# Altium footprint library PcbLib2.PcbLib: 25 footprints (part 2 of 2)
Each footprint in its own frame and in the unit in brackets; x right, y up, seen from the top. Pads: shape width x height; smd on the part's side, far side on the other; paste and mask are expansions set on the pad; w line width, h text height; cw(c..) or ccw(c..) is an arc to the next point about the centre after c.
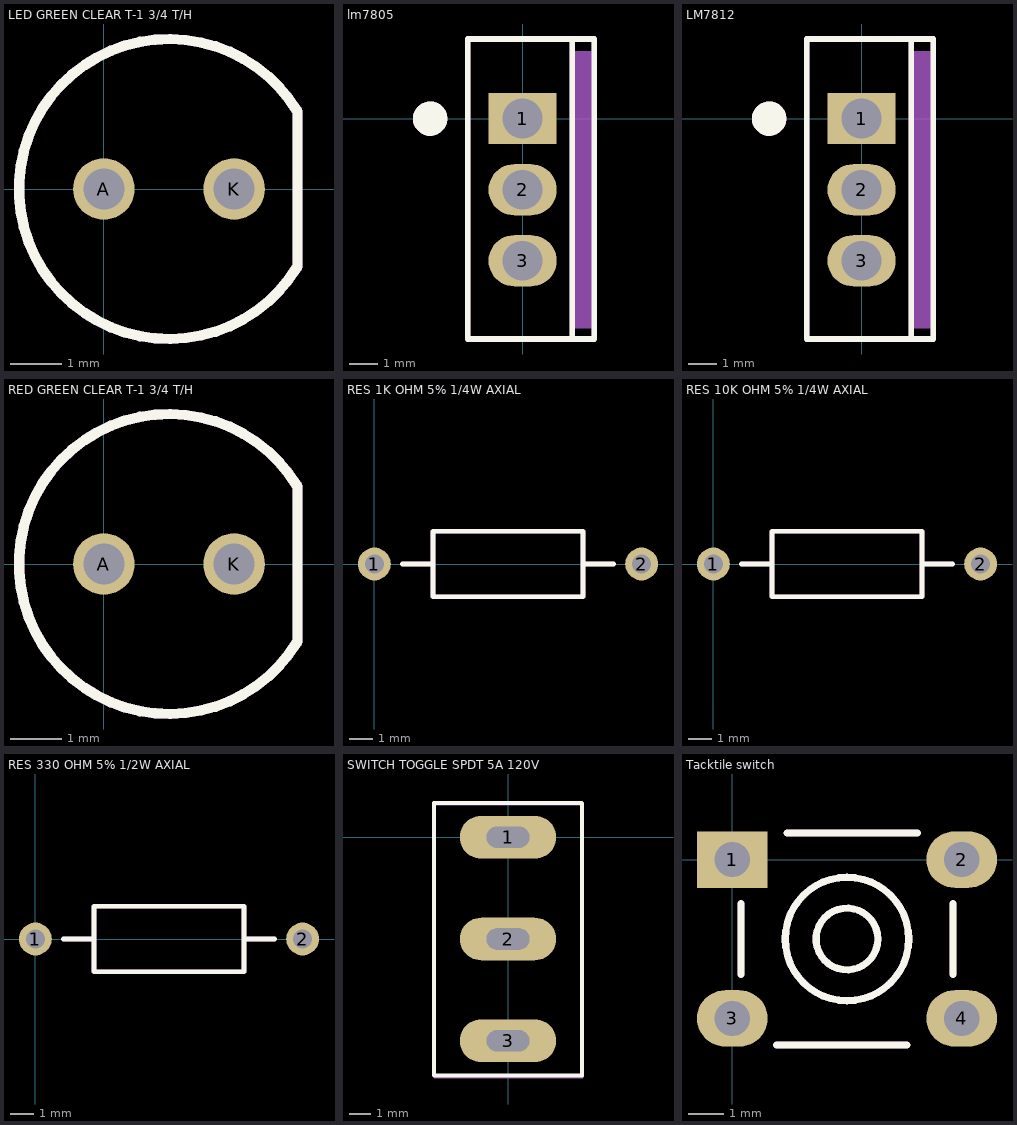
[diagram p1: the footprints below, top view; thin cyan lines are the x and y axes]

## LED GREEN CLEAR T-1 3/4 T/H [mm]
pads (2):
  round 1.2 hole 0.8: A(0,0) K(2.54,0)
Top Overlay:
  lines w0.2: 3.775,-1.51 cw(c1.27,0) 3.775,1.51 3.775,-1.51
Top Assembly:
  lines w0.2: 3.775,-1.51 cw(c1.27,0) 3.775,1.51 3.775,-1.51
  text "'.Designator'" at -8.927,-0.75 h1.8
3D body "green led.STEP": height 8.61, standoff -9.99, extent -1.655,-2.925 3.77,2.925

## lm7805 [mm]
pads (3):
  rect 2.4x1.8 hole 1.4: 1(0,0)
  oval 2.4x1.8 hole 1.4: 2(0,-2.5) 3(0,-5)
Top Overlay:
  circle w0.61: c-3.25,0 r0.3
  lines w0.2: 1.75,2.775 1.75,-7.7 1.775,-7.725 ; -1.925,-7.75 2.525,-7.75 2.525,2.8 -1.925,2.8 -1.925,-7.75
Top Assembly:
  circle w0.61: c-3.25,0 r0.3
  rectangle: 1.7,-7.375 2.5,2.375
  lines w0.2: 1.75,-7.7 1.75,2.775 ; -1.925,-7.75 2.525,-7.75 2.525,2.8 -1.925,2.8 -1.925,-7.75
  text "'.Designator'" at 0.942,-11.589 h1.6
3D body "lm7805.STEP": height 20.75, standoff -9.27, extent -1.78,-7.615 2.4,2.665

## LM7812 [mm]
pads (3):
  rect 2.4x1.8 hole 1.4: 1(0,0)
  oval 2.4x1.8 hole 1.4: 2(0,-2.5) 3(0,-5)
Top Overlay:
  circle w0.61: c-3.25,0 r0.3
  lines w0.2: 1.75,2.775 1.75,-7.7 1.775,-7.725 ; -1.925,-7.75 2.525,-7.75 2.525,2.8 -1.925,2.8 -1.925,-7.75
Top Assembly:
  circle w0.61: c-3.25,0 r0.3
  rectangle: 1.7,-7.375 2.5,2.375
  lines w0.2: 1.75,-7.7 1.75,2.775 ; -1.925,-7.75 2.525,-7.75 2.525,2.8 -1.925,2.8 -1.925,-7.75
  text "'.Designator'" at 0.942,-11.589 h1.6
3D body "lm7805.STEP": height 20.75, standoff -9.27, extent -1.78,-7.615 2.4,2.665

## RED GREEN CLEAR T-1 3/4 T/H [mm]
pads (2):
  round 1.2 hole 0.8: A(0,0) K(2.54,0)
Top Overlay:
  lines w0.2: 3.775,-1.51 cw(c1.27,0) 3.775,1.51 3.775,-1.51
Top Assembly:
  lines w0.2: 3.775,-1.51 cw(c1.27,0) 3.775,1.51 3.775,-1.51
  text "'.Designator'" at -8.927,-0.75 h1.8
3D body "red led.STEP": height 8.61, standoff -9.99, extent -1.655,-2.925 3.77,2.925

## RES 1K OHM 5% 1/4W AXIAL [mm]
pads (2):
  round 1.4 hole 0.8: 1(0,0) 2(11.4,0)
Top Overlay:
  lines w0.2: 1.2,0 2.5,0 ; 8.9,0 10.2,0 ; 2.5,-1.4 2.5,1.4 8.9,1.4 8.9,-1.4 2.5,-1.4
Top Assembly:
  lines w0.2: 1.2,0 2.5,0 ; 8.9,0 10.2,0 ; 2.5,-1.4 2.5,1.4 8.9,1.4 8.9,-1.4 2.5,-1.4
  text "'.Designator'" at -1.098,-0.5 h1.2
3D body "STA_CFM12_STP.step": height 2.61, standoff -2.79, extent -0.317,-1.306 11.747,1.306

## RES 10K OHM 5% 1/4W AXIAL [mm]
pads (2):
  round 1.4 hole 0.8: 1(0,0) 2(11.4,0)
Top Overlay:
  lines w0.2: 1.2,0 2.5,0 ; 8.9,0 10.2,0 ; 2.5,-1.4 2.5,1.4 8.9,1.4 8.9,-1.4 2.5,-1.4
Top Assembly:
  lines w0.2: 1.2,0 2.5,0 ; 8.9,0 10.2,0 ; 2.5,-1.4 2.5,1.4 8.9,1.4 8.9,-1.4 2.5,-1.4
  text "'.Designator'" at -1.098,-0.5 h1.2
3D body "STA_CFM12_STP.step": height 2.61, standoff -2.79, extent -0.317,-1.306 11.747,1.306

## RES 330 OHM 5% 1/2W AXIAL [mm]
pads (2):
  round 1.4 hole 0.8: 1(0,0) 2(11.4,0)
Top Overlay:
  lines w0.2: 1.2,0 2.5,0 ; 8.9,0 10.2,0 ; 2.5,-1.4 8.9,-1.4 8.9,1.4 2.5,1.4 2.5,-1.4
Top Assembly:
  lines w0.2: 1.2,0 2.5,0 ; 8.9,0 10.2,0 ; 2.5,-1.4 8.9,-1.4 8.9,1.4 2.5,1.4 2.5,-1.4
  text "'.Designator'" at -1.098,-0.5 h1.2
3D body "STA_CFM12_STP.step": height 2.61, standoff -2.79, extent -0.317,-1.306 11.747,1.306

## SWITCH TOGGLE SPDT 5A 120V [mm]
pads (3):
  oval 4.5x2 hole 1 slot 2 at 0 deg: 1(0,0) 2(0,-4.75) 3(0,-9.5)
Top Overlay:
  lines w0.2: -3.45,-11.1 -3.45,1.6 3.425,1.6 3.45,1.575 3.45,-11.125 -3.425,-11.125 -3.45,-11.1
Top Assembly:
  lines w0.2: -3.45,-11.125 -3.45,1.575 3.425,1.575 3.45,1.55 3.45,-11.15 -3.425,-11.15 -3.45,-11.125
  text "'.Designator'" at 0.808,-16.08 h2
3D body "100SP1T1B4M2QE--3DModel-STEP-520916.STEP": height 29.49, standoff -5.29, extent -3.43,-11.1 3.43,1.6

## Tacktile switch [mm]
pads (4):
  rect 2x1.6 hole 1: 1(0,0)
  oval 2x1.6 hole 1: 2(6.5,0) 3(0,-4.5) 4(6.5,-4.5)
Top Overlay:
  circle w0.2: c3.25,-2.25 r1.75
  circle w0.2: c3.25,-2.25 r0.875
  lines w0.2: 0.25,-3.25 0.25,-1.25 ; 1.25,-5.25 4.95,-5.25 ; 1.55,0.75 5.25,0.75 ; 6.25,-3.25 6.25,-1.25
Top Assembly:
  circle w0.2: c3.25,-2.25 r1.75
  circle w0.2: c3.25,-2.25 r0.875
  lines w0.2: 0.25,-3.25 0.25,-1.25 ; 1.25,-5.25 4.95,-5.25 ; 1.55,0.75 5.25,0.75 ; 6.25,-3.25 6.25,-1.25
  text "'.Designator'" at -10.912,-3.291 h2.5
3D body "TL1105BF160Q--3DModel-STEP-520916.STEP": height 9.51, standoff -3.54, extent -0.697,-5.25 7.197,0.75